# Altium schematic symbol library OLED_1.3_SPI_SHIELD.Schlib: 1 symbol
Pins are listed as number, name and electrical type; pins without a type are passive.

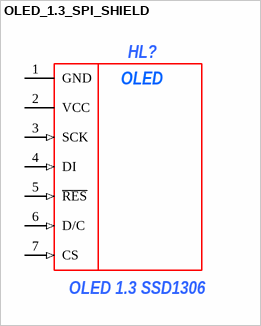
[diagram p0: symbol OLED_1.3_SPI_SHIELD]

## OLED_1.3_SPI_SHIELD
designator HL?, comment OLED 1.3 SSD1306
ComponentLink1Description: *; ComponentLink1URL: *; ComponentLink2Description: *; ComponentLink2URL: *; ManufacturerPartNumber: OLED 1.3 SSD1306; Power/Voltage: *; Rem: *; TKE: *; Tolerance: *; TU/GOST: *; Value: *; Корпус: *; Примечание: *; Manufacturer: *; Author: *; Type: *
pins: 1 GND (power), 2 VCC (power), 3 SCK (in), 4 DI (in), 5 ~{RES} (in), 6 D/C (in), 7 CS (in)
text: OLED